# Altium integrated library Motorola Microcontroller 8-Bit.IntLib: 909 symbols (part 26 of 31)
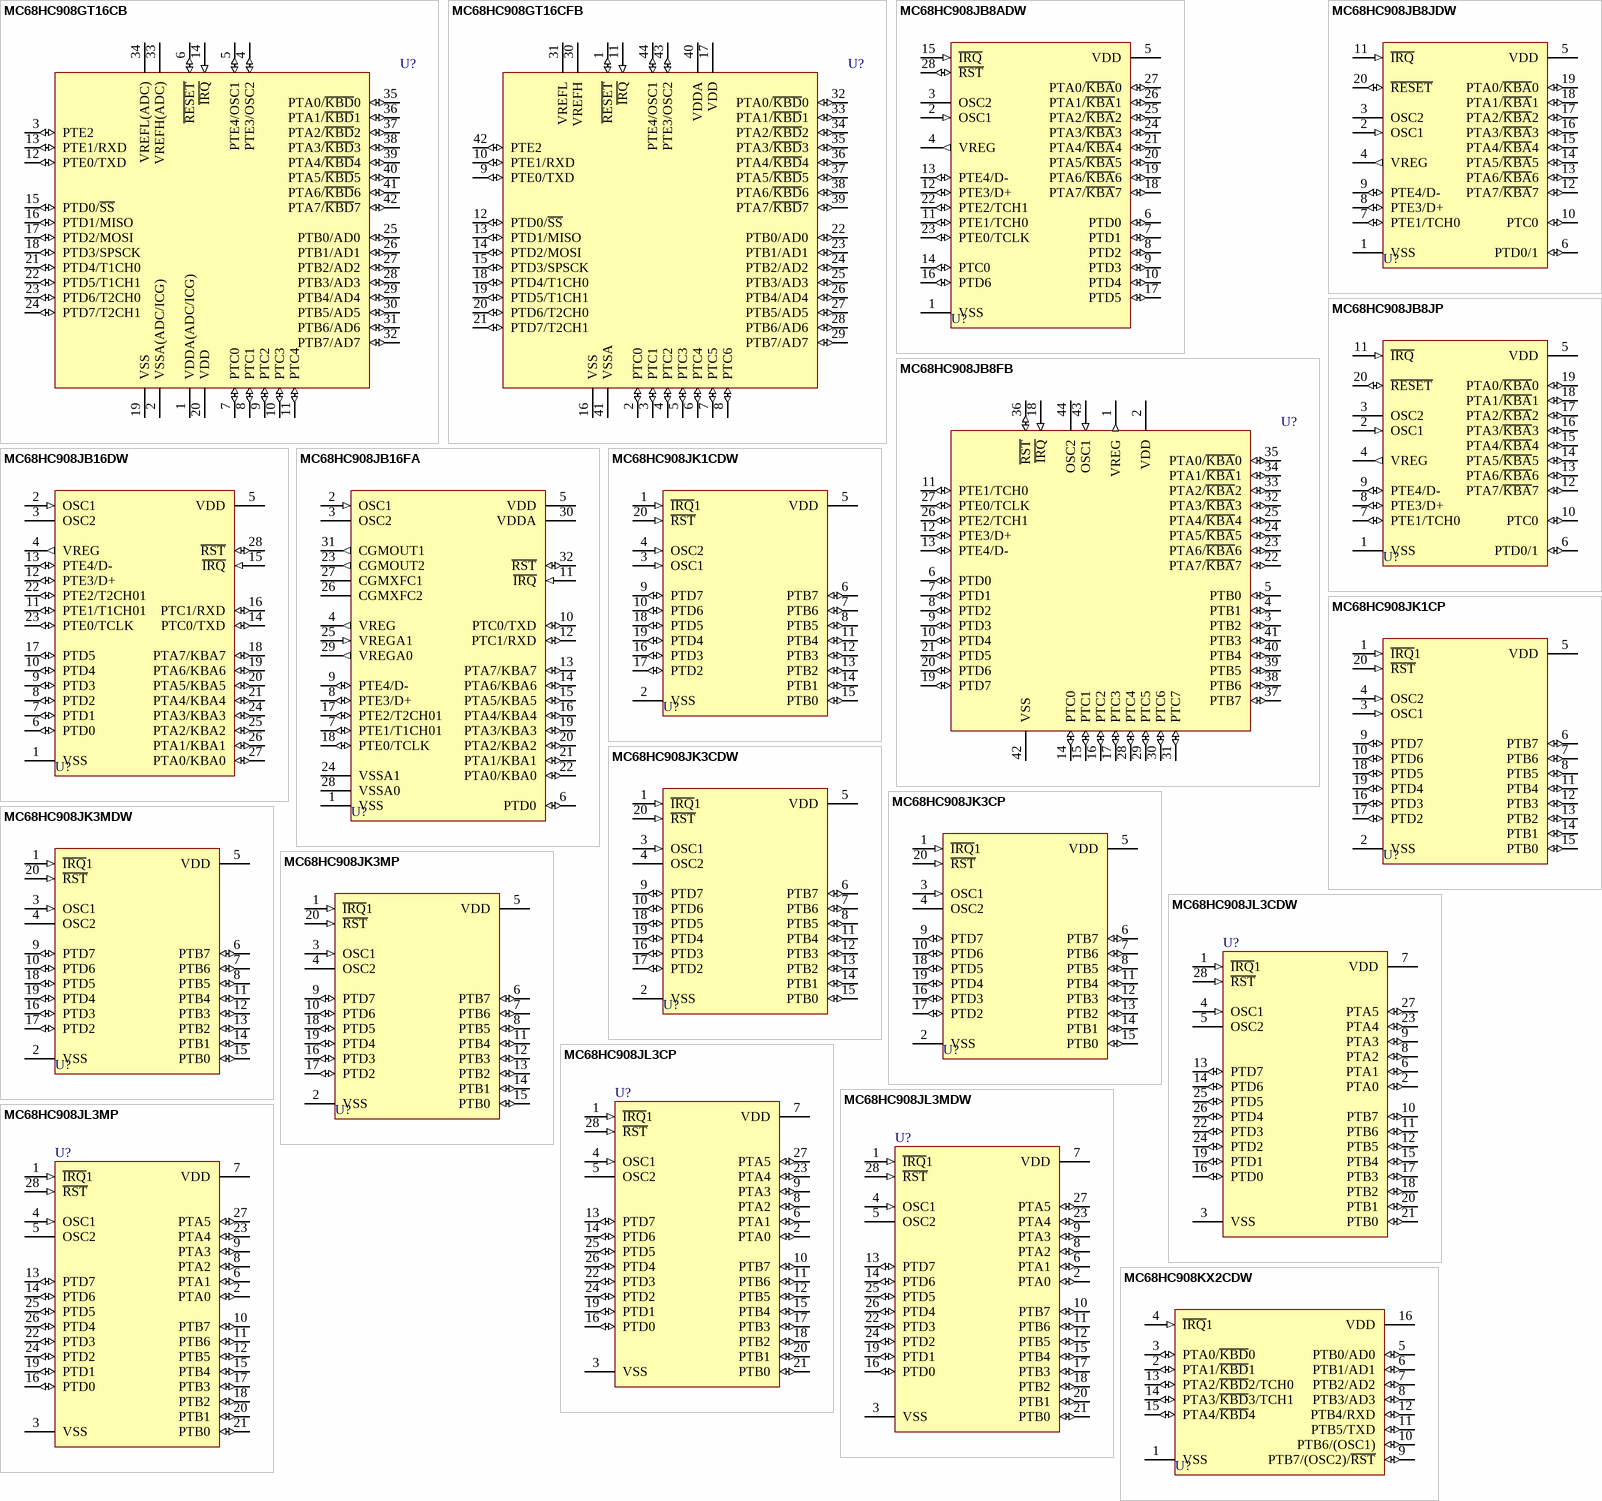
[diagram p138: symbols MC68HC908GT16CB to MC68HC908KX2CDW]

## MC68HC908JK1CP
designator U?
8-Bit Microcontroller; Published: 17-Jan-2003; LatestRevisionDate: 06-Jun-2005; LatestRevisionNote: Stylized 3D Model Added.; DatasheetVersion: Rev 1.0, 1999; PackageReference: 738-03; Publisher: Altium Limited; PackageDescription: DIP; 20 Leads; Row Spacing 7.62 mm; Pitch 2.54 mm; Code_JEDEC: MS-001-AD; ComponentLink1Description: Manufacturer Link; ComponentLink1URL: http://www.freescale.com/
footprint 738-03 (DIP; 20 Leads; Row Spacing 7.62 mm; Pitch 2.54 mm)
3D model 738-03 (DIP; 20 Leads; Row Spacing 7.62 mm; Pitch 2.54 mm)
pins: 1 ~{IRQ}1 (in), 2 VSS (power), 3 OSC1 (in), 4 OSC2 (in), 5 VDD (power), 6 PTB7 (io), 7 PTB6 (io), 8 PTB5 (io), 9 PTD7 (io), 10 PTD6 (io), 11 PTB4 (io), 12 PTB3 (io), 13 PTB2 (io), 14 PTB1 (io), 15 PTB0 (io), 16 PTD3 (io), 17 PTD2 (io), 18 PTD5 (io), 19 PTD4 (io), 20 ~{RST} (in)

## MC68HC908JK3CDW
designator U?
8-Bit Microcontroller; Published: 17-Jan-2003; LatestRevisionDate: 13-Apr-2006; LatestRevisionNote: IPC-7351 Footprint Added.; DatasheetVersion: Rev 1.0, 1999; PackageVersion: rev4.0, 2001; PackageReference: 751D-05; Publisher: Altium Limited; PackageDescription: 20-Pin Plastic Small Outline Integrated Circuit 1.27 mm Pitch; ComponentLink1Description: Manufacturer Link; ComponentLink1URL: http://www.freescale.com/
footprint 751D-05_N (SOIC, 20-Leads, Body 12.8x7.5mm, Pitch 1.27mm, IPC Medium Density)
footprint 751D-05_L (SOIC, 20-Leads, Body 12.8x7.5mm, Pitch 1.27mm, IPC High Density)
footprint 751D-05_M (SOIC, 20-Leads, Body 12.8x7.5mm, Pitch 1.27mm, IPC Low Density)
3D model 751D-05 (20-Pin Plastic Small Outline Integrated Circuit 1.27 mm Pitch)
pins: 1 ~{IRQ}1 (in), 2 VSS (power), 3 OSC1 (in), 4 OSC2, 5 VDD (power), 6 PTB7 (io), 7 PTB6 (io), 8 PTB5 (io), 9 PTD7 (io), 10 PTD6 (io), 11 PTB4 (io), 12 PTB3 (io), 13 PTB2 (io), 14 PTB1 (io), 15 PTB0 (io), 16 PTD3 (io), 17 PTD2 (io), 18 PTD5 (io), 19 PTD4 (io), 20 ~{RST} (in)

## MC68HC908JK3CP
designator U?
8-Bit Microcontroller; Published: 17-Jan-2003; LatestRevisionDate: 06-Jun-2005; LatestRevisionNote: Stylized 3D Model Added.; DatasheetVersion: Rev 1.0, 1999; PackageReference: 738-03; Publisher: Altium Limited; PackageDescription: DIP; 20 Leads; Row Spacing 7.62 mm; Pitch 2.54 mm; Code_JEDEC: MS-001-AD; ComponentLink1Description: Manufacturer Link; ComponentLink1URL: http://www.freescale.com/
footprint 738-03 (DIP; 20 Leads; Row Spacing 7.62 mm; Pitch 2.54 mm)
3D model 738-03 (DIP; 20 Leads; Row Spacing 7.62 mm; Pitch 2.54 mm)
pins: 1 ~{IRQ}1 (in), 2 VSS (power), 3 OSC1 (in), 4 OSC2, 5 VDD (power), 6 PTB7 (io), 7 PTB6 (io), 8 PTB5 (io), 9 PTD7 (io), 10 PTD6 (io), 11 PTB4 (io), 12 PTB3 (io), 13 PTB2 (io), 14 PTB1 (io), 15 PTB0 (io), 16 PTD3 (io), 17 PTD2 (io), 18 PTD5 (io), 19 PTD4 (io), 20 ~{RST} (in)

## MC68HC908JK3MDW
designator U?
8-Bit Microcontroller; Published: 17-Jan-2003; LatestRevisionDate: 13-Apr-2006; LatestRevisionNote: IPC-7351 Footprint Added.; DatasheetVersion: Rev 1.0, 1999; PackageVersion: rev4.0, 2001; PackageReference: 751D-05; Publisher: Altium Limited; PackageDescription: 20-Pin Plastic Small Outline Integrated Circuit 1.27 mm Pitch; ComponentLink1Description: Manufacturer Link; ComponentLink1URL: http://www.freescale.com/
footprint 751D-05_N (SOIC, 20-Leads, Body 12.8x7.5mm, Pitch 1.27mm, IPC Medium Density)
footprint 751D-05_L (SOIC, 20-Leads, Body 12.8x7.5mm, Pitch 1.27mm, IPC High Density)
footprint 751D-05_M (SOIC, 20-Leads, Body 12.8x7.5mm, Pitch 1.27mm, IPC Low Density)
3D model 751D-05 (20-Pin Plastic Small Outline Integrated Circuit 1.27 mm Pitch)
pins: 1 ~{IRQ}1 (in), 2 VSS (power), 3 OSC1 (in), 4 OSC2, 5 VDD (power), 6 PTB7 (io), 7 PTB6 (io), 8 PTB5 (io), 9 PTD7 (io), 10 PTD6 (io), 11 PTB4 (io), 12 PTB3 (io), 13 PTB2 (io), 14 PTB1 (io), 15 PTB0 (io), 16 PTD3 (io), 17 PTD2 (io), 18 PTD5 (io), 19 PTD4 (io), 20 ~{RST} (in)

## MC68HC908JK3MP
designator U?
8-Bit Microcontroller; Published: 17-Jan-2003; LatestRevisionDate: 06-Jun-2005; LatestRevisionNote: Stylized 3D Model Added.; DatasheetVersion: Rev 1.0, 1999; PackageReference: 738-03; Publisher: Altium Limited; PackageDescription: DIP; 20 Leads; Row Spacing 7.62 mm; Pitch 2.54 mm; Code_JEDEC: MS-001-AD; ComponentLink1Description: Manufacturer Link; ComponentLink1URL: http://www.freescale.com/
footprint 738-03 (DIP; 20 Leads; Row Spacing 7.62 mm; Pitch 2.54 mm)
3D model 738-03 (DIP; 20 Leads; Row Spacing 7.62 mm; Pitch 2.54 mm)
pins: 1 ~{IRQ}1 (in), 2 VSS (power), 3 OSC1 (in), 4 OSC2, 5 VDD (power), 6 PTB7 (io), 7 PTB6 (io), 8 PTB5 (io), 9 PTD7 (io), 10 PTD6 (io), 11 PTB4 (io), 12 PTB3 (io), 13 PTB2 (io), 14 PTB1 (io), 15 PTB0 (io), 16 PTD3 (io), 17 PTD2 (io), 18 PTD5 (io), 19 PTD4 (io), 20 ~{RST} (in)

## MC68HC908JL3CDW
designator U?
8-Bit Microcontroller; Published: 17-Jan-2003; LatestRevisionDate: 13-Apr-2006; LatestRevisionNote: IPC-7351 Footprint Added.; DatasheetVersion: Rev 1.0, 1999; PackageReference: 751F-03; Publisher: Altium Limited; PackageDescription: 28-Pin Small Outline Integrated Circuit 1.27 mm Pitch; ComponentLink1Description: Manufacturer Link; ComponentLink1URL: http://www.freescale.com/
footprint 751F-03_N (SOIC, 28-Leads, Body 17.9x7.5mm, Pitch 1.27mm, IPC Medium Density)
footprint 751F-03_L (SOIC, 28-Leads, Body 17.9x7.5mm, Pitch 1.27mm, IPC High Density)
footprint 751F-03_M (SOIC, 28-Leads, Body 17.9x7.5mm, Pitch 1.27mm, IPC Low Density)
3D model 751F-03 (28-Pin Small Outline Integrated Circuit 1.27 mm Pitch)
pins: 1 ~{IRQ}1 (in), 2 PTA0 (io), 3 VSS (power), 4 OSC1 (in), 5 OSC2, 6 PTA1 (io), 7 VDD (power), 8 PTA2 (io), 9 PTA3 (io), 10 PTB7 (io), 11 PTB6 (io), 12 PTB5 (io), 13 PTD7 (io), 14 PTD6 (io), 15 PTB4 (io), 16 PTD0 (io), 17 PTB3 (io), 18 PTB2 (io), 19 PTD1 (io), 20 PTB1 (io), 21 PTB0 (io), 22 PTD3 (io), 23 PTA4 (io), 24 PTD2 (io), 25 PTD5 (io), 26 PTD4 (io), 27 PTA5 (io), 28 ~{RST} (in)

## MC68HC908JL3CP
designator U?
8-Bit Microcontroller; Published: 17-Jan-2003; LatestRevisionDate: 06-Jun-2005; LatestRevisionNote: Stylized 3D Model Added.; DatasheetVersion: Rev 1.0, 1999; PackageReference: 710-02; Publisher: Altium Limited; PackageDescription: DIP; 28 Leads; Row Spacing 15.24 mm; Pitch 2.54 mm; ComponentLink1Description: Manufacturer Link; ComponentLink1URL: http://www.freescale.com/
footprint 710-02 (DIP; 28 Leads; Row Spacing 15.24 mm; Pitch 2.54 mm)
3D model 710-02 (DIP; 28 Leads; Row Spacing 15.24 mm; Pitch 2.54 mm)
pins: 1 ~{IRQ}1 (in), 2 PTA0 (io), 3 VSS (power), 4 OSC1 (in), 5 OSC2, 6 PTA1 (io), 7 VDD (power), 8 PTA2 (io), 9 PTA3 (io), 10 PTB7 (io), 11 PTB6 (io), 12 PTB5 (io), 13 PTD7 (io), 14 PTD6 (io), 15 PTB4 (io), 16 PTD0 (io), 17 PTB3 (io), 18 PTB2 (io), 19 PTD1 (io), 20 PTB1 (io), 21 PTB0 (io), 22 PTD3 (io), 23 PTA4 (io), 24 PTD2 (io), 25 PTD5 (io), 26 PTD4 (io), 27 PTA5 (io), 28 ~{RST} (in)

## MC68HC908JL3MDW
designator U?
8-Bit Microcontroller; Published: 17-Jan-2003; LatestRevisionDate: 13-Apr-2006; LatestRevisionNote: IPC-7351 Footprint Added.; DatasheetVersion: Rev 1.0, 1999; PackageReference: 751F-03; Publisher: Altium Limited; PackageDescription: 28-Pin Small Outline Integrated Circuit 1.27 mm Pitch; ComponentLink1Description: Manufacturer Link; ComponentLink1URL: http://www.freescale.com/
footprint 751F-03_N (SOIC, 28-Leads, Body 17.9x7.5mm, Pitch 1.27mm, IPC Medium Density)
footprint 751F-03_L (SOIC, 28-Leads, Body 17.9x7.5mm, Pitch 1.27mm, IPC High Density)
footprint 751F-03_M (SOIC, 28-Leads, Body 17.9x7.5mm, Pitch 1.27mm, IPC Low Density)
3D model 751F-03 (28-Pin Small Outline Integrated Circuit 1.27 mm Pitch)
pins: 1 ~{IRQ}1 (in), 2 PTA0 (io), 3 VSS (power), 4 OSC1 (in), 5 OSC2, 6 PTA1 (io), 7 VDD (power), 8 PTA2 (io), 9 PTA3 (io), 10 PTB7 (io), 11 PTB6 (io), 12 PTB5 (io), 13 PTD7 (io), 14 PTD6 (io), 15 PTB4 (io), 16 PTD0 (io), 17 PTB3 (io), 18 PTB2 (io), 19 PTD1 (io), 20 PTB1 (io), 21 PTB0 (io), 22 PTD3 (io), 23 PTA4 (io), 24 PTD2 (io), 25 PTD5 (io), 26 PTD4 (io), 27 PTA5 (io), 28 ~{RST} (in)

## MC68HC908JL3MP
designator U?
8-Bit Microcontroller; Published: 17-Jan-2003; LatestRevisionDate: 06-Jun-2005; LatestRevisionNote: Stylized 3D Model Added.; DatasheetVersion: Rev 1.0, 1999; PackageReference: 710-02; Publisher: Altium Limited; PackageDescription: DIP; 28 Leads; Row Spacing 15.24 mm; Pitch 2.54 mm; ComponentLink1Description: Manufacturer Link; ComponentLink1URL: http://www.freescale.com/
footprint 710-02 (DIP; 28 Leads; Row Spacing 15.24 mm; Pitch 2.54 mm)
3D model 710-02 (DIP; 28 Leads; Row Spacing 15.24 mm; Pitch 2.54 mm)
pins: 1 ~{IRQ}1 (in), 2 PTA0 (io), 3 VSS (power), 4 OSC1 (in), 5 OSC2, 6 PTA1 (io), 7 VDD (power), 8 PTA2 (io), 9 PTA3 (io), 10 PTB7 (io), 11 PTB6 (io), 12 PTB5 (io), 13 PTD7 (io), 14 PTD6 (io), 15 PTB4 (io), 16 PTD0 (io), 17 PTB3 (io), 18 PTB2 (io), 19 PTD1 (io), 20 PTB1 (io), 21 PTB0 (io), 22 PTD3 (io), 23 PTA4 (io), 24 PTD2 (io), 25 PTD5 (io), 26 PTD4 (io), 27 PTA5 (io), 28 ~{RST} (in)

## MC68HC908KX2CDW
designator U?
8-Bit Microcontroller; Note: Tie unused inputs & I/O ports to the appropriate logic level (either VDD or VSS ) to reduce the possibility of electro-static discharge damage.; Published: 17-Jan-2003; LatestRevisionDate: 13-Apr-2006; LatestRevisionNote: IPC-7351 Footprint Added.; DatasheetVersion: Rev 1, 2/2002; PackageVersion: Sep-2002; PackageReference: 751G; Publisher: Altium Limited; PackageDescription: 16-Pin Small Outline Integrated Circuit 1.27 mm Pitch; ComponentLink1Description: Manufacturer Link; ComponentLink1URL: http://www.freescale.com/; ComponentLink2Description: Datasheet; ComponentLink2URL: http://www.freescale.com/files/microcontrollers/doc/data_sheet/MC68HC908KX8.pdf
footprint 751G_N (SOIC, 16-Leads, Body 10.3x7.5mm, Pitch 1.27mm, IPC Medium Density)
footprint 751G_L (SOIC, 16-Leads, Body 10.3x7.5mm, Pitch 1.27mm, IPC High Density)
footprint 751G_M (SOIC, 16-Leads, Body 10.3x7.5mm, Pitch 1.27mm, IPC Low Density)
3D model 751G (16-Pin Small Outline Integrated Circuit 1.27 mm Pitch)
pins: 1 VSS (power), 2 PTA1/~{KBD}1 (io), 3 PTA0/~{KBD}0 (io), 4 ~{IRQ}1 (in), 5 PTB0/AD0 (io), 6 PTB1/AD1 (io), 7 PTB2/AD2 (io), 8 PTB3/AD3 (io), 9 PTB7/(OSC2)/~{RST} (io), 10 PTB6/(OSC1) (io), 11 PTB5/TXD (io), 12 PTB4/RXD (io), 13 PTA2/~{KBD}2/TCH0 (io), 14 PTA3/~{KBD}3/TCH1 (io), 15 PTA4/~{KBD}4 (io), 16 VDD (power)

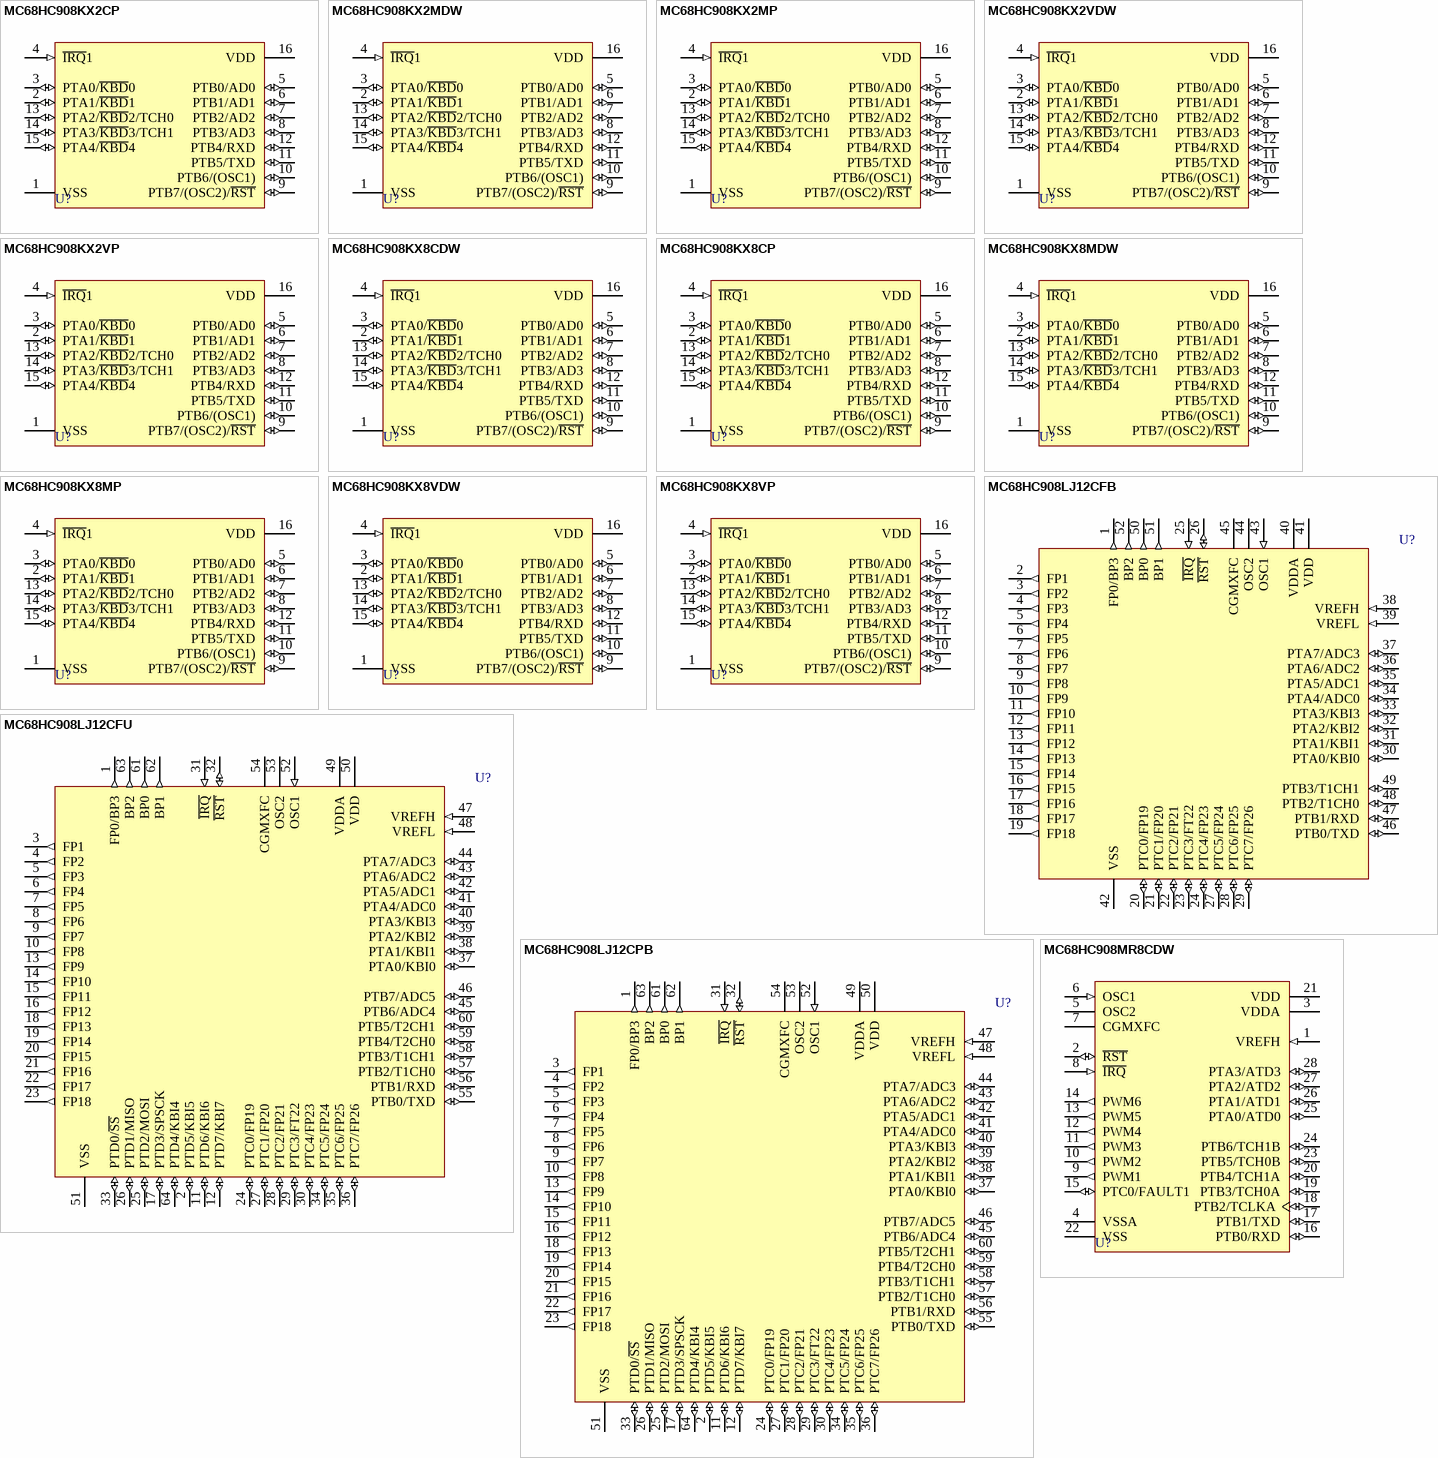
[diagram p96: symbols MC68HC908KX2CP to MC68HC908MR8CDW]

## MC68HC908KX2CP
designator U?
8-Bit Microcontroller; Note: Tie unused inputs & I/O ports to the appropriate logic level (either VDD or VSS ) to reduce the possibility of electro-static discharge damage.; Published: 17-Jan-2003; LatestRevisionDate: 06-Jun-2005; LatestRevisionNote: Stylized 3D Model Added.; DatasheetVersion: Rev 1, 2/2002; PackageVersion: rev1.0, Feb-2002; PackageReference: 648D; Publisher: Altium Limited; PackageDescription: DIP; 16 Leads; Row Spacing 7.62 mm; Pitch 2.54 mm; Code_JEDEC: MS-001-BB; ComponentLink1Description: Manufacturer Link; ComponentLink1URL: http://www.freescale.com/; ComponentLink2Description: Datasheet; ComponentLink2URL: http://www.freescale.com/files/microcontrollers/doc/data_sheet/MC68HC908KX8.pdf
footprint 648D (DIP; 16 Leads; Row Spacing 7.62 mm; Pitch 2.54 mm)
3D model 648-08 (DIP; 16 Leads; Row Spacing 7.62 mm; Pitch 2.54 mm)
pins: 1 VSS (power), 2 PTA1/~{KBD}1 (io), 3 PTA0/~{KBD}0 (io), 4 ~{IRQ}1 (in), 5 PTB0/AD0 (io), 6 PTB1/AD1 (io), 7 PTB2/AD2 (io), 8 PTB3/AD3 (io), 9 PTB7/(OSC2)/~{RST} (io), 10 PTB6/(OSC1) (io), 11 PTB5/TXD (io), 12 PTB4/RXD (io), 13 PTA2/~{KBD}2/TCH0 (io), 14 PTA3/~{KBD}3/TCH1 (io), 15 PTA4/~{KBD}4 (io), 16 VDD (power)

## MC68HC908KX2MDW
designator U?
8-Bit Microcontroller; Note: Tie unused inputs & I/O ports to the appropriate logic level (either VDD or VSS ) to reduce the possibility of electro-static discharge damage.; Published: 17-Jan-2003; LatestRevisionDate: 13-Apr-2006; LatestRevisionNote: IPC-7351 Footprint Added.; DatasheetVersion: Rev 1, 2/2002; PackageVersion: Sep-2002; PackageReference: 751G; Publisher: Altium Limited; PackageDescription: 16-Pin Small Outline Integrated Circuit 1.27 mm Pitch; ComponentLink1Description: Manufacturer Link; ComponentLink1URL: http://www.freescale.com/; ComponentLink2Description: Datasheet; ComponentLink2URL: http://www.freescale.com/files/microcontrollers/doc/data_sheet/MC68HC908KX8.pdf
footprint 751G_N (SOIC, 16-Leads, Body 10.3x7.5mm, Pitch 1.27mm, IPC Medium Density)
footprint 751G_L (SOIC, 16-Leads, Body 10.3x7.5mm, Pitch 1.27mm, IPC High Density)
footprint 751G_M (SOIC, 16-Leads, Body 10.3x7.5mm, Pitch 1.27mm, IPC Low Density)
3D model 751G (16-Pin Small Outline Integrated Circuit 1.27 mm Pitch)
pins: 1 VSS (power), 2 PTA1/~{KBD}1 (io), 3 PTA0/~{KBD}0 (io), 4 ~{IRQ}1 (in), 5 PTB0/AD0 (io), 6 PTB1/AD1 (io), 7 PTB2/AD2 (io), 8 PTB3/AD3 (io), 9 PTB7/(OSC2)/~{RST} (io), 10 PTB6/(OSC1) (io), 11 PTB5/TXD (io), 12 PTB4/RXD (io), 13 PTA2/~{KBD}2/TCH0 (io), 14 PTA3/~{KBD}3/TCH1 (io), 15 PTA4/~{KBD}4 (io), 16 VDD (power)

## MC68HC908KX2MP
designator U?
8-Bit Microcontroller; Note: Tie unused inputs & I/O ports to the appropriate logic level (either VDD or VSS ) to reduce the possibility of electro-static discharge damage.; Published: 17-Jan-2003; LatestRevisionDate: 06-Jun-2005; LatestRevisionNote: Stylized 3D Model Added.; DatasheetVersion: Rev 1, 2/2002; PackageVersion: rev1.0, Feb-2002; PackageReference: 648D; Publisher: Altium Limited; PackageDescription: DIP; 16 Leads; Row Spacing 7.62 mm; Pitch 2.54 mm; Code_JEDEC: MS-001-BB; ComponentLink1Description: Manufacturer Link; ComponentLink1URL: http://www.freescale.com/; ComponentLink2Description: Datasheet; ComponentLink2URL: http://www.freescale.com/files/microcontrollers/doc/data_sheet/MC68HC908KX8.pdf
footprint 648D (DIP; 16 Leads; Row Spacing 7.62 mm; Pitch 2.54 mm)
3D model 648-08 (DIP; 16 Leads; Row Spacing 7.62 mm; Pitch 2.54 mm)
pins: 1 VSS (power), 2 PTA1/~{KBD}1 (io), 3 PTA0/~{KBD}0 (io), 4 ~{IRQ}1 (in), 5 PTB0/AD0 (io), 6 PTB1/AD1 (io), 7 PTB2/AD2 (io), 8 PTB3/AD3 (io), 9 PTB7/(OSC2)/~{RST} (io), 10 PTB6/(OSC1) (io), 11 PTB5/TXD (io), 12 PTB4/RXD (io), 13 PTA2/~{KBD}2/TCH0 (io), 14 PTA3/~{KBD}3/TCH1 (io), 15 PTA4/~{KBD}4 (io), 16 VDD (power)

## MC68HC908KX2VDW
designator U?
8-Bit Microcontroller; Note: Tie unused inputs & I/O ports to the appropriate logic level (either VDD or VSS ) to reduce the possibility of electro-static discharge damage.; Published: 17-Jan-2003; LatestRevisionDate: 13-Apr-2006; LatestRevisionNote: IPC-7351 Footprint Added.; DatasheetVersion: Rev 1, 2/2002; PackageVersion: Sep-2002; PackageReference: 751G; Publisher: Altium Limited; PackageDescription: 16-Pin Small Outline Integrated Circuit 1.27 mm Pitch; ComponentLink1Description: Manufacturer Link; ComponentLink1URL: http://www.freescale.com/; ComponentLink2Description: Datasheet; ComponentLink2URL: http://www.freescale.com/files/microcontrollers/doc/data_sheet/MC68HC908KX8.pdf
footprint 751G_N (SOIC, 16-Leads, Body 10.3x7.5mm, Pitch 1.27mm, IPC Medium Density)
footprint 751G_L (SOIC, 16-Leads, Body 10.3x7.5mm, Pitch 1.27mm, IPC High Density)
footprint 751G_M (SOIC, 16-Leads, Body 10.3x7.5mm, Pitch 1.27mm, IPC Low Density)
3D model 751G (16-Pin Small Outline Integrated Circuit 1.27 mm Pitch)
pins: 1 VSS (power), 2 PTA1/~{KBD}1 (io), 3 PTA0/~{KBD}0 (io), 4 ~{IRQ}1 (in), 5 PTB0/AD0 (io), 6 PTB1/AD1 (io), 7 PTB2/AD2 (io), 8 PTB3/AD3 (io), 9 PTB7/(OSC2)/~{RST} (io), 10 PTB6/(OSC1) (io), 11 PTB5/TXD (io), 12 PTB4/RXD (io), 13 PTA2/~{KBD}2/TCH0 (io), 14 PTA3/~{KBD}3/TCH1 (io), 15 PTA4/~{KBD}4 (io), 16 VDD (power)

## MC68HC908KX2VP
designator U?
8-Bit Microcontroller; Note: Tie unused inputs & I/O ports to the appropriate logic level (either VDD or VSS ) to reduce the possibility of electro-static discharge damage.; Published: 17-Jan-2003; LatestRevisionDate: 06-Jun-2005; LatestRevisionNote: Stylized 3D Model Added.; DatasheetVersion: Rev 1, 2/2002; PackageVersion: rev1.0, Feb-2002; PackageReference: 648D; Publisher: Altium Limited; PackageDescription: DIP; 16 Leads; Row Spacing 7.62 mm; Pitch 2.54 mm; Code_JEDEC: MS-001-BB; ComponentLink1Description: Manufacturer Link; ComponentLink1URL: http://www.freescale.com/; ComponentLink2Description: Datasheet; ComponentLink2URL: http://www.freescale.com/files/microcontrollers/doc/data_sheet/MC68HC908KX8.pdf
footprint 648D (DIP; 16 Leads; Row Spacing 7.62 mm; Pitch 2.54 mm)
3D model 648-08 (DIP; 16 Leads; Row Spacing 7.62 mm; Pitch 2.54 mm)
pins: 1 VSS (power), 2 PTA1/~{KBD}1 (io), 3 PTA0/~{KBD}0 (io), 4 ~{IRQ}1 (in), 5 PTB0/AD0 (io), 6 PTB1/AD1 (io), 7 PTB2/AD2 (io), 8 PTB3/AD3 (io), 9 PTB7/(OSC2)/~{RST} (io), 10 PTB6/(OSC1) (io), 11 PTB5/TXD (io), 12 PTB4/RXD (io), 13 PTA2/~{KBD}2/TCH0 (io), 14 PTA3/~{KBD}3/TCH1 (io), 15 PTA4/~{KBD}4 (io), 16 VDD (power)

## MC68HC908KX8CDW
designator U?
8-Bit Microcontroller; Note: Tie unused inputs & I/O ports to the appropriate logic level (either VDD or VSS ) to reduce the possibility of electro-static discharge damage.; Published: 17-Jan-2003; LatestRevisionDate: 13-Apr-2006; LatestRevisionNote: IPC-7351 Footprint Added.; DatasheetVersion: Rev 1, 2/2002; PackageVersion: Sep-2002; PackageReference: 751G; Publisher: Altium Limited; PackageDescription: 16-Pin Small Outline Integrated Circuit 1.27 mm Pitch; ComponentLink1Description: Manufacturer Link; ComponentLink1URL: http://www.freescale.com/; ComponentLink2Description: Datasheet; ComponentLink2URL: http://www.freescale.com/files/microcontrollers/doc/data_sheet/MC68HC908KX8.pdf
footprint 751G_N (SOIC, 16-Leads, Body 10.3x7.5mm, Pitch 1.27mm, IPC Medium Density)
footprint 751G_L (SOIC, 16-Leads, Body 10.3x7.5mm, Pitch 1.27mm, IPC High Density)
footprint 751G_M (SOIC, 16-Leads, Body 10.3x7.5mm, Pitch 1.27mm, IPC Low Density)
3D model 751G (16-Pin Small Outline Integrated Circuit 1.27 mm Pitch)
pins: 1 VSS (power), 2 PTA1/~{KBD}1 (io), 3 PTA0/~{KBD}0 (io), 4 ~{IRQ}1 (in), 5 PTB0/AD0 (io), 6 PTB1/AD1 (io), 7 PTB2/AD2 (io), 8 PTB3/AD3 (io), 9 PTB7/(OSC2)/~{RST} (io), 10 PTB6/(OSC1) (io), 11 PTB5/TXD (io), 12 PTB4/RXD (io), 13 PTA2/~{KBD}2/TCH0 (io), 14 PTA3/~{KBD}3/TCH1 (io), 15 PTA4/~{KBD}4 (io), 16 VDD (power)

## MC68HC908KX8CP
designator U?
8-Bit Microcontroller; Note: Tie unused inputs & I/O ports to the appropriate logic level (either VDD or VSS ) to reduce the possibility of electro-static discharge damage.; Published: 17-Jan-2003; LatestRevisionDate: 06-Jun-2005; LatestRevisionNote: Stylized 3D Model Added.; DatasheetVersion: Rev 1, 2/2002; PackageVersion: rev1.0, Feb-2002; PackageReference: 648D; Publisher: Altium Limited; PackageDescription: DIP; 16 Leads; Row Spacing 7.62 mm; Pitch 2.54 mm; Code_JEDEC: MS-001-BB; ComponentLink1Description: Manufacturer Link; ComponentLink1URL: http://www.freescale.com/; ComponentLink2Description: Datasheet; ComponentLink2URL: http://www.freescale.com/files/microcontrollers/doc/data_sheet/MC68HC908KX8.pdf
footprint 648D (DIP; 16 Leads; Row Spacing 7.62 mm; Pitch 2.54 mm)
3D model 648-08 (DIP; 16 Leads; Row Spacing 7.62 mm; Pitch 2.54 mm)
pins: 1 VSS (power), 2 PTA1/~{KBD}1 (io), 3 PTA0/~{KBD}0 (io), 4 ~{IRQ}1 (in), 5 PTB0/AD0 (io), 6 PTB1/AD1 (io), 7 PTB2/AD2 (io), 8 PTB3/AD3 (io), 9 PTB7/(OSC2)/~{RST} (io), 10 PTB6/(OSC1) (io), 11 PTB5/TXD (io), 12 PTB4/RXD (io), 13 PTA2/~{KBD}2/TCH0 (io), 14 PTA3/~{KBD}3/TCH1 (io), 15 PTA4/~{KBD}4 (io), 16 VDD (power)

## MC68HC908KX8MDW
designator U?
8-Bit Microcontroller; Note: Tie unused inputs & I/O ports to the appropriate logic level (either VDD or VSS ) to reduce the possibility of electro-static discharge damage.; Published: 17-Jan-2003; LatestRevisionDate: 13-Apr-2006; LatestRevisionNote: IPC-7351 Footprint Added.; DatasheetVersion: Rev 1, 2/2002; PackageVersion: Sep-2002; PackageReference: 751G; Publisher: Altium Limited; PackageDescription: 16-Pin Small Outline Integrated Circuit 1.27 mm Pitch; ComponentLink1Description: Manufacturer Link; ComponentLink1URL: http://www.freescale.com/; ComponentLink2Description: Datasheet; ComponentLink2URL: http://www.freescale.com/files/microcontrollers/doc/data_sheet/MC68HC908KX8.pdf
footprint 751G_N (SOIC, 16-Leads, Body 10.3x7.5mm, Pitch 1.27mm, IPC Medium Density)
footprint 751G_L (SOIC, 16-Leads, Body 10.3x7.5mm, Pitch 1.27mm, IPC High Density)
footprint 751G_M (SOIC, 16-Leads, Body 10.3x7.5mm, Pitch 1.27mm, IPC Low Density)
3D model 751G (16-Pin Small Outline Integrated Circuit 1.27 mm Pitch)
pins: 1 VSS (power), 2 PTA1/~{KBD}1 (io), 3 PTA0/~{KBD}0 (io), 4 ~{IRQ}1 (in), 5 PTB0/AD0 (io), 6 PTB1/AD1 (io), 7 PTB2/AD2 (io), 8 PTB3/AD3 (io), 9 PTB7/(OSC2)/~{RST} (io), 10 PTB6/(OSC1) (io), 11 PTB5/TXD (io), 12 PTB4/RXD (io), 13 PTA2/~{KBD}2/TCH0 (io), 14 PTA3/~{KBD}3/TCH1 (io), 15 PTA4/~{KBD}4 (io), 16 VDD (power)

## MC68HC908KX8MP
designator U?
8-Bit Microcontroller; Note: Tie unused inputs & I/O ports to the appropriate logic level (either VDD or VSS ) to reduce the possibility of electro-static discharge damage.; Published: 17-Jan-2003; LatestRevisionDate: 06-Jun-2005; LatestRevisionNote: Stylized 3D Model Added.; DatasheetVersion: Rev 1, 2/2002; PackageVersion: rev1.0, Feb-2002; PackageReference: 648D; Publisher: Altium Limited; PackageDescription: DIP; 16 Leads; Row Spacing 7.62 mm; Pitch 2.54 mm; Code_JEDEC: MS-001-BB; ComponentLink1Description: Manufacturer Link; ComponentLink1URL: http://www.freescale.com/; ComponentLink2Description: Datasheet; ComponentLink2URL: http://www.freescale.com/files/microcontrollers/doc/data_sheet/MC68HC908KX8.pdf
footprint 648D (DIP; 16 Leads; Row Spacing 7.62 mm; Pitch 2.54 mm)
3D model 648-08 (DIP; 16 Leads; Row Spacing 7.62 mm; Pitch 2.54 mm)
pins: 1 VSS (power), 2 PTA1/~{KBD}1 (io), 3 PTA0/~{KBD}0 (io), 4 ~{IRQ}1 (in), 5 PTB0/AD0 (io), 6 PTB1/AD1 (io), 7 PTB2/AD2 (io), 8 PTB3/AD3 (io), 9 PTB7/(OSC2)/~{RST} (io), 10 PTB6/(OSC1) (io), 11 PTB5/TXD (io), 12 PTB4/RXD (io), 13 PTA2/~{KBD}2/TCH0 (io), 14 PTA3/~{KBD}3/TCH1 (io), 15 PTA4/~{KBD}4 (io), 16 VDD (power)

## MC68HC908KX8VDW
designator U?
8-Bit Microcontroller; Note: Tie unused inputs & I/O ports to the appropriate logic level (either VDD or VSS ) to reduce the possibility of electro-static discharge damage.; Published: 17-Jan-2003; LatestRevisionDate: 13-Apr-2006; LatestRevisionNote: IPC-7351 Footprint Added.; DatasheetVersion: Rev 1, 2/2002; PackageVersion: Sep-2002; PackageReference: 751G; Publisher: Altium Limited; PackageDescription: 16-Pin Small Outline Integrated Circuit 1.27 mm Pitch; ComponentLink1Description: Manufacturer Link; ComponentLink1URL: http://www.freescale.com/; ComponentLink2Description: Datasheet; ComponentLink2URL: http://www.freescale.com/files/microcontrollers/doc/data_sheet/MC68HC908KX8.pdf
footprint 751G_N (SOIC, 16-Leads, Body 10.3x7.5mm, Pitch 1.27mm, IPC Medium Density)
footprint 751G_L (SOIC, 16-Leads, Body 10.3x7.5mm, Pitch 1.27mm, IPC High Density)
footprint 751G_M (SOIC, 16-Leads, Body 10.3x7.5mm, Pitch 1.27mm, IPC Low Density)
3D model 751G (16-Pin Small Outline Integrated Circuit 1.27 mm Pitch)
pins: 1 VSS (power), 2 PTA1/~{KBD}1 (io), 3 PTA0/~{KBD}0 (io), 4 ~{IRQ}1 (in), 5 PTB0/AD0 (io), 6 PTB1/AD1 (io), 7 PTB2/AD2 (io), 8 PTB3/AD3 (io), 9 PTB7/(OSC2)/~{RST} (io), 10 PTB6/(OSC1) (io), 11 PTB5/TXD (io), 12 PTB4/RXD (io), 13 PTA2/~{KBD}2/TCH0 (io), 14 PTA3/~{KBD}3/TCH1 (io), 15 PTA4/~{KBD}4 (io), 16 VDD (power)

## MC68HC908KX8VP
designator U?
8-Bit Microcontroller; Note: Tie unused inputs & I/O ports to the appropriate logic level (either VDD or VSS ) to reduce the possibility of electro-static discharge damage.; Published: 17-Jan-2003; LatestRevisionDate: 06-Jun-2005; LatestRevisionNote: Stylized 3D Model Added.; DatasheetVersion: Rev 1, 2/2002; PackageVersion: rev1.0, Feb-2002; PackageReference: 648D; Publisher: Altium Limited; PackageDescription: DIP; 16 Leads; Row Spacing 7.62 mm; Pitch 2.54 mm; Code_JEDEC: MS-001-BB; ComponentLink1Description: Manufacturer Link; ComponentLink1URL: http://www.freescale.com/; ComponentLink2Description: Datasheet; ComponentLink2URL: http://www.freescale.com/files/microcontrollers/doc/data_sheet/MC68HC908KX8.pdf
footprint 648D (DIP; 16 Leads; Row Spacing 7.62 mm; Pitch 2.54 mm)
3D model 648-08 (DIP; 16 Leads; Row Spacing 7.62 mm; Pitch 2.54 mm)
pins: 1 VSS (power), 2 PTA1/~{KBD}1 (io), 3 PTA0/~{KBD}0 (io), 4 ~{IRQ}1 (in), 5 PTB0/AD0 (io), 6 PTB1/AD1 (io), 7 PTB2/AD2 (io), 8 PTB3/AD3 (io), 9 PTB7/(OSC2)/~{RST} (io), 10 PTB6/(OSC1) (io), 11 PTB5/TXD (io), 12 PTB4/RXD (io), 13 PTA2/~{KBD}2/TCH0 (io), 14 PTA3/~{KBD}3/TCH1 (io), 15 PTA4/~{KBD}4 (io), 16 VDD (power)

## MC68HC908LJ12CFB
designator U?
8-Bit Microcontroller; Published: 17-Jan-2003; LatestRevisionDate: 13-Apr-2006; LatestRevisionNote: IPC-7351 Footprint Added.; DatasheetVersion: Rev 2, 2/2002; PackageVersion: rev4, Jul-2002; PackageReference: 848D; Publisher: Altium Limited; PackageDescription: 52-Pin Quad Flat Pack 0.65 mm Pitch; ComponentLink1Description: Manufacturer Link; ComponentLink1URL: http://www.freescale.com/; ComponentLink2Description: Datasheet; ComponentLink2URL: http://www.freescale.com/files/microcontrollers/doc/data_sheet/MC68HC908LJ12.pdf
footprint 848D_N (QFP, 52-Leads, Body 10 x 10mm, Pitch 0.65mm, IPC Medium Density)
footprint 848D_L (QFP, 52-Leads, Body 10 x 10mm, Pitch 0.65mm, IPC High Density)
footprint 848D_M (QFP, 52-Leads, Body 10 x 10mm, Pitch 0.65mm, IPC Low Density)
3D model MC68HC908-848D (52-Pin Quad Flat Pack 0.65 mm Pitch)
pins: 1 FP0/BP3 (out), 2 FP1 (out), 3 FP2 (out), 4 FP3 (out), 5 FP4 (out), 6 FP5 (out), 7 FP6 (out), 8 FP7 (out), 9 FP8 (out), 10 FP9 (out), 11 FP10 (out), 12 FP11 (out), 13 FP12 (out), 14 FP13 (out), 15 FP14 (out), 16 FP15 (out), 17 FP16 (out), 18 FP17 (out), 19 FP18 (out), 20 PTC0/FP19 (io), 21 PTC1/FP20 (io), 22 PTC2/FP21 (io), 23 PTC3/FT22 (io), 24 PTC4/FP23 (io), 25 ~{IRQ} (in), 26 ~{RST} (io), 27 PTC5/FP24 (io), 28 PTC6/FP25 (io), 29 PTC7/FP26 (io), 30 PTA0/KBI0 (io), 31 PTA1/KBI1 (io), 32 PTA2/KBI2 (io), 33 PTA3/KBI3 (io), 34 PTA4/ADC0 (io), 35 PTA5/ADC1 (io), 36 PTA6/ADC2 (io), 37 PTA7/ADC3 (io), 38 VREFH (in), 39 VREFL (in), 40 VDDA (power), 41 VDD (power), 42 VSS (power), 43 OSC1 (in), 44 OSC2, 45 CGMXFC, 46 PTB0/TXD (io), 47 PTB1/RXD (io), 48 PTB2/T1CH0 (io), 49 PTB3/T1CH1 (io), 50 BP0 (out), 51 BP1 (out), 52 BP2 (out)

## MC68HC908LJ12CFU
designator U?
8-Bit Microcontroller; Published: 17-Jan-2003; LatestRevisionDate: 13-Apr-2006; LatestRevisionNote: IPC-7351 Footprint Added.; DatasheetVersion: Rev 2, 2/2002; PackageVersion: rev2, 2000; PackageReference: 840B-01; Publisher: Altium Limited; PackageDescription: 64-Pin Quad Flat Pack 0.8 mm Pitch; Code_IPC: QFP80P1720X1720-64; ComponentLink1Description: Manufacturer Link; ComponentLink1URL: http://www.freescale.com/; ComponentLink2Description: Datasheet; ComponentLink2URL: http://www.freescale.com/files/microcontrollers/doc/data_sheet/MC68HC908LJ12.pdf
footprint 840B-01_N (QFP, 64-Leads, Body 14x14mm, Pitch 0.8mm, IPC Medium Density)
footprint 840B-01_L (QFP, 64-Leads, Body 14x14mm, Pitch 0.8mm, IPC High Density)
footprint 840B-01_M (QFP, 64-Leads, Body 14x14mm, Pitch 0.8mm, IPC Low Density)
3D model MC68HC908-840B-01 (64-Pin Quad Flat Pack 0.8 mm Pitch)
pins: 1 FP0/BP3 (out), 2 PTD5/KBI5 (io), 3 FP1 (out), 4 FP2 (out), 5 FP3 (out), 6 FP4 (out), 7 FP5 (out), 8 FP6 (out), 9 FP7 (out), 10 FP8 (out), 11 PTD6/KBI6 (io), 12 PTD7/KBI7 (io), 13 FP9 (out), 14 FP10 (out), 15 FP11 (out), 16 FP12 (out), 17 PTD3/SPSCK (io), 18 FP13 (out), 19 FP14 (out), 20 FP15 (out), 21 FP16 (out), 22 FP17 (out), 23 FP18 (out), 24 PTC0/FP19 (io), 25 PTD2/MOSI (io), 26 PTD1/MISO (io), 27 PTC1/FP20 (io), 28 PTC2/FP21 (io), 29 PTC3/FT22 (io), 30 PTC4/FP23 (io), 31 ~{IRQ} (in), 32 ~{RST} (io), 33 PTD0/~{SS} (io), 34 PTC5/FP24 (io), 35 PTC6/FP25 (io), 36 PTC7/FP26 (io), 37 PTA0/KBI0 (io), 38 PTA1/KBI1 (io), 39 PTA2/KBI2 (io), 40 PTA3/KBI3 (io), 41 PTA4/ADC0 (io), 42 PTA5/ADC1 (io), 43 PTA6/ADC2 (io), 44 PTA7/ADC3 (io), 45 PTB6/ADC4 (io), 46 PTB7/ADC5 (io), 47 VREFH (in), 48 VREFL (in), 49 VDDA (power), 50 VDD (power), 51 VSS (power), 52 OSC1 (in), 53 OSC2, 54 CGMXFC, 55 PTB0/TXD (io), 56 PTB1/RXD (io), 57 PTB2/T1CH0 (io), 58 PTB3/T1CH1 (io), 59 PTB4/T2CH0 (io), 60 PTB5/T2CH1 (io), 61 BP0 (out), 62 BP1 (out), 63 BP2 (out), 64 PTD4/KBI4 (io)

## MC68HC908LJ12CPB
designator U?
8-Bit Microcontroller; Published: 17-Jan-2003; LatestRevisionDate: 13-Apr-2006; LatestRevisionNote: IPC-7351 Footprint Added.; DatasheetVersion: Rev 2, 2/2002; PackageVersion: rev2.0, Feb-2002; PackageReference: 840F; Publisher: Altium Limited; PackageDescription: 64-Pin Thin Quad Flat Pack 0.5 mm Pitch; ComponentLink1Description: Manufacturer Link; ComponentLink1URL: http://www.freescale.com/; ComponentLink2Description: Datasheet; ComponentLink2URL: http://www.freescale.com/files/microcontrollers/doc/data_sheet/MC68HC908LJ12.pdf
footprint 840F_N (Thin QFP, 64-Leads, Body 10x10mm, Pitch 0.5mm, IPC Medium Density)
footprint 840F_L (Thin QFP, 64-Leads, Body 10x10mm, Pitch 0.5mm, IPC High Density)
footprint 840F_M (Thin QFP, 64-Leads, Body 10x10mm, Pitch 0.5mm, IPC Low Density)
3D model MC68HC908-840F (64-Pin Thin Quad Flat Pack 0.5 mm Pitch)
pins: 1 FP0/BP3 (out), 2 PTD5/KBI5 (io), 3 FP1 (out), 4 FP2 (out), 5 FP3 (out), 6 FP4 (out), 7 FP5 (out), 8 FP6 (out), 9 FP7 (out), 10 FP8 (out), 11 PTD6/KBI6 (io), 12 PTD7/KBI7 (io), 13 FP9 (out), 14 FP10 (out), 15 FP11 (out), 16 FP12 (out), 17 PTD3/SPSCK (io), 18 FP13 (out), 19 FP14 (out), 20 FP15 (out), 21 FP16 (out), 22 FP17 (out), 23 FP18 (out), 24 PTC0/FP19 (io), 25 PTD2/MOSI (io), 26 PTD1/MISO (io), 27 PTC1/FP20 (io), 28 PTC2/FP21 (io), 29 PTC3/FT22 (io), 30 PTC4/FP23 (io), 31 ~{IRQ} (in), 32 ~{RST} (io), 33 PTD0/~{SS} (io), 34 PTC5/FP24 (io), 35 PTC6/FP25 (io), 36 PTC7/FP26 (io), 37 PTA0/KBI0 (io), 38 PTA1/KBI1 (io), 39 PTA2/KBI2 (io), 40 PTA3/KBI3 (io), 41 PTA4/ADC0 (io), 42 PTA5/ADC1 (io), 43 PTA6/ADC2 (io), 44 PTA7/ADC3 (io), 45 PTB6/ADC4 (io), 46 PTB7/ADC5 (io), 47 VREFH (in), 48 VREFL (in), 49 VDDA (power), 50 VDD (power), 51 VSS (power), 52 OSC1 (in), 53 OSC2, 54 CGMXFC, 55 PTB0/TXD (io), 56 PTB1/RXD (io), 57 PTB2/T1CH0 (io), 58 PTB3/T1CH1 (io), 59 PTB4/T2CH0 (io), 60 PTB5/T2CH1 (io), 61 BP0 (out), 62 BP1 (out), 63 BP2 (out), 64 PTD4/KBI4 (io)

## MC68HC908MR8CDW
designator U?
8-Bit Microcontroller; Published: 17-Jan-2003; LatestRevisionDate: 13-Apr-2006; LatestRevisionNote: IPC-7351 Footprint Added.; DatasheetVersion: Rev 4, 8/2002; PackageReference: 751F-03; Publisher: Altium Limited; PackageDescription: 28-Pin Small Outline Integrated Circuit 1.27 mm Pitch; ComponentLink1Description: Manufacturer Link; ComponentLink1URL: http://www.freescale.com/; ComponentLink2Description: Datasheet; ComponentLink2URL: http://www.freescale.com/files/microcontrollers/doc/data_sheet/MC68HC908MR8.pdf
footprint 751F-03_N (SOIC, 28-Leads, Body 17.9x7.5mm, Pitch 1.27mm, IPC Medium Density)
footprint 751F-03_L (SOIC, 28-Leads, Body 17.9x7.5mm, Pitch 1.27mm, IPC High Density)
footprint 751F-03_M (SOIC, 28-Leads, Body 17.9x7.5mm, Pitch 1.27mm, IPC Low Density)
3D model 751F-03 (28-Pin Small Outline Integrated Circuit 1.27 mm Pitch)
pins: 1 VREFH (in), 2 ~{RST} (io), 3 VDDA (power), 4 VSSA (power), 5 OSC2, 6 OSC1 (in), 7 CGMXFC, 8 ~{IRQ} (in), 9 PWM1 (out), 10 PWM2 (out), 11 PWM3 (out), 12 PWM4 (out), 13 PWM5 (out), 14 PWM6 (out), 15 PTC0/FAULT1 (io), 16 PTB0/RXD (io), 17 PTB1/TXD (io), 18 PTB2/TCLKA (io), 19 PTB3/TCH0A (io), 20 PTB4/TCH1A (io), 21 VDD (power), 22 VSS (power), 23 PTB5/TCH0B (io), 24 PTB6/TCH1B (io), 25 PTA0/ATD0 (io), 26 PTA1/ATD1 (io), 27 PTA2/ATD2 (io), 28 PTA3/ATD3 (io)

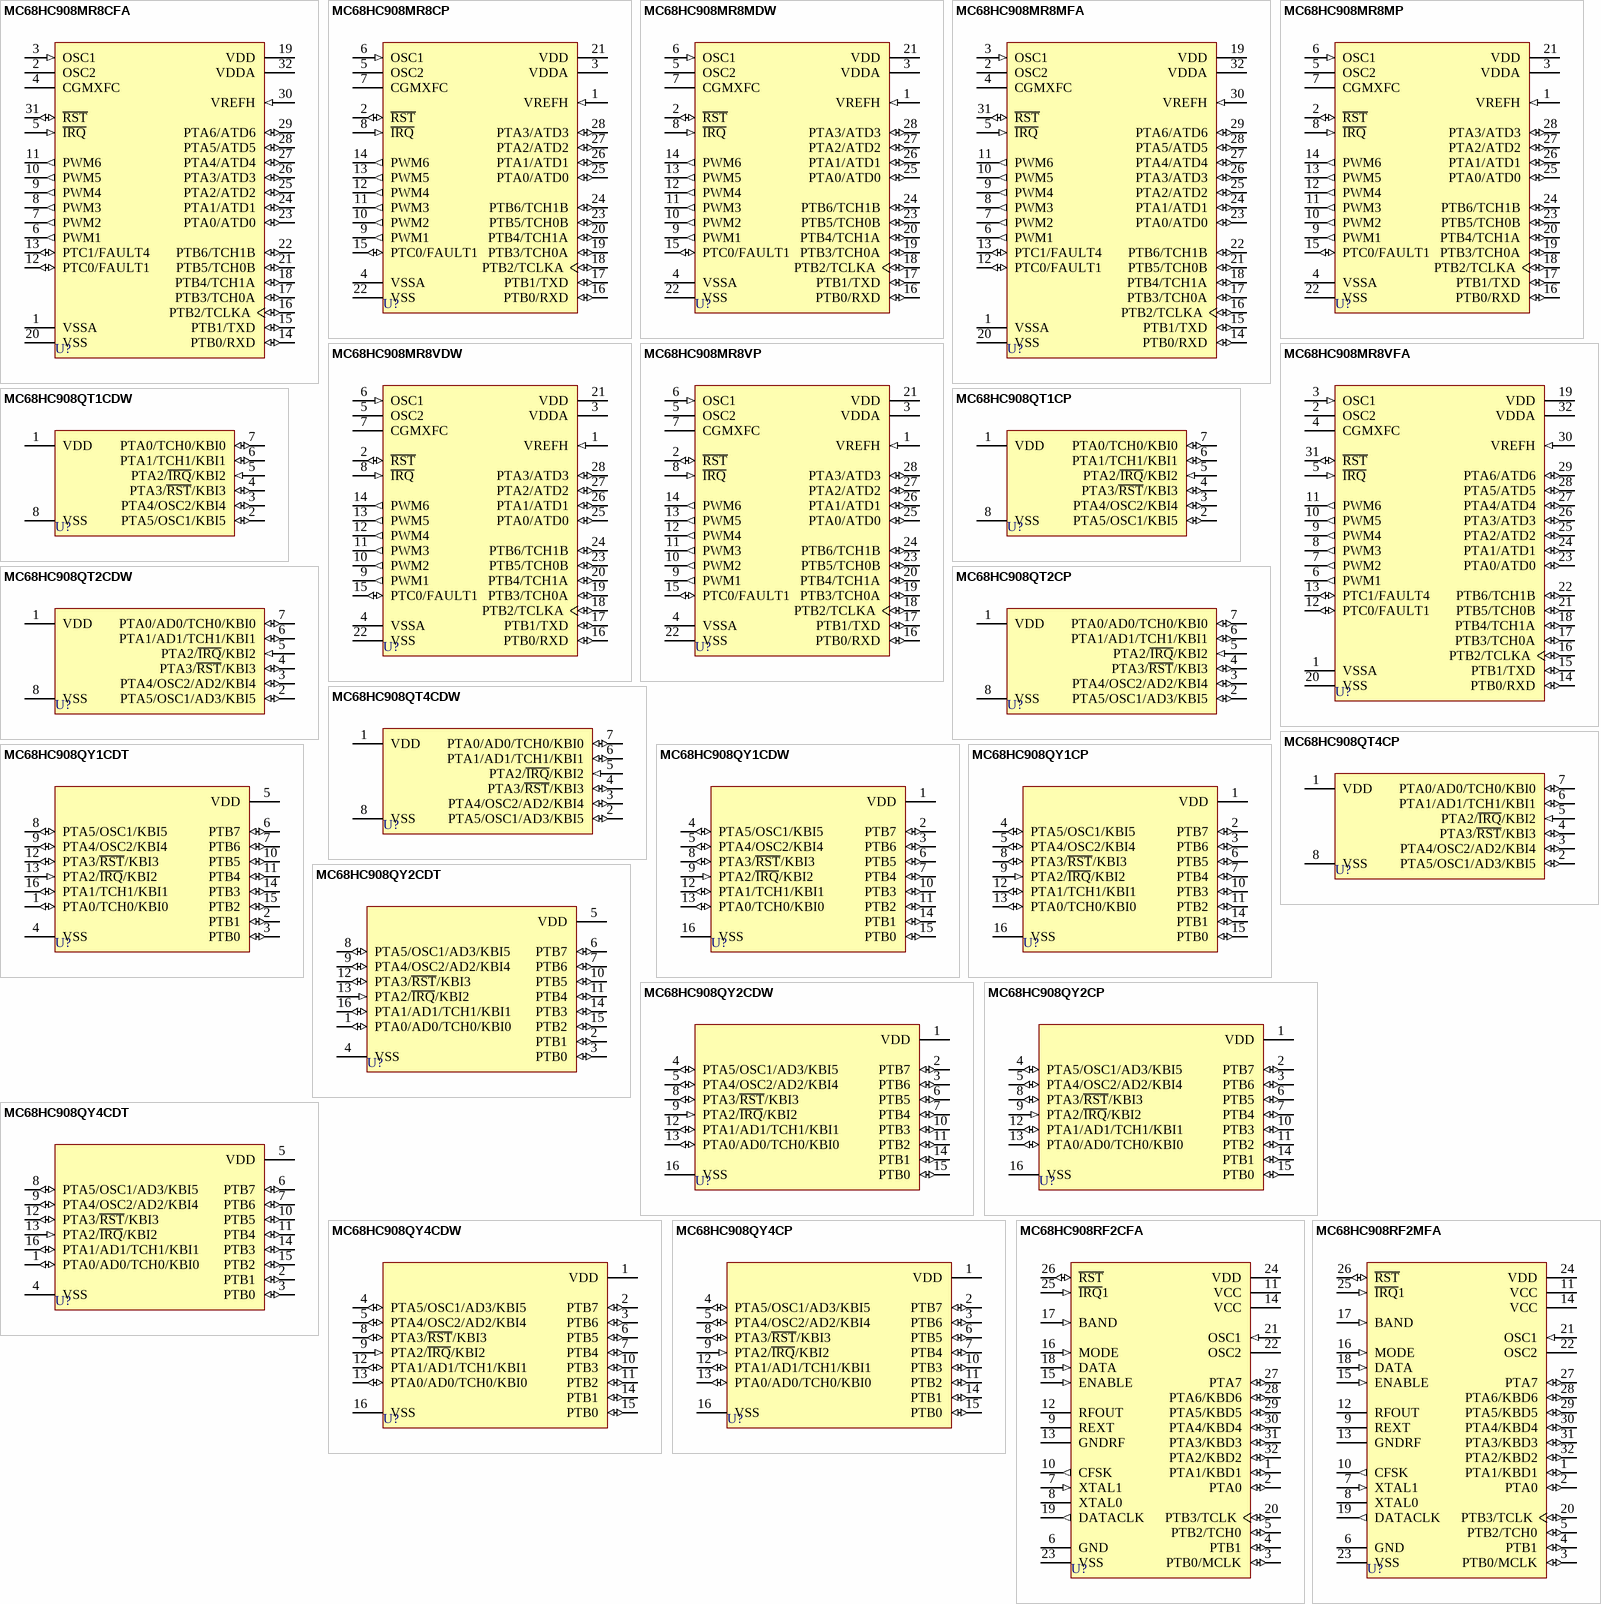
[diagram p97: symbols MC68HC908MR8CFA to MC68HC908RF2MFA]

## MC68HC908MR8CFA
designator U?
8-Bit Microcontroller; Published: 17-Jan-2003; LatestRevisionDate: 13-Apr-2006; LatestRevisionNote: IPC-7351 Footprint Added.; DatasheetVersion: Rev 4, 8/2002; PackageVersion: Aug-2001; PackageReference: 873A-02; Publisher: Altium Limited; PackageDescription: 32-Pin Thin Quad Flat Pack 0.8 mm Pitch; ComponentLink1Description: Manufacturer Link; ComponentLink1URL: http://www.freescale.com/; ComponentLink2Description: Datasheet; ComponentLink2URL: http://www.freescale.com/files/microcontrollers/doc/data_sheet/MC68HC908MR8.pdf
footprint 873A-02_N (Thin QFP, 32-Leads, Body 7x7mm, Pitch 0.8mm, IPC Medium Density)
footprint 873A-02_L (Thin QFP, 32-Leads, Body 7x7mm, Pitch 0.8mm, IPC High Density)
footprint 873A-02_M (Thin QFP, 32-Leads, Body 7x7mm, Pitch 0.8mm, IPC Low Density)
3D model MC68HC908-873A-02 (32-Pin Thin Quad Flat Pack 0.8 mm Pitch)
pins: 1 VSSA (power), 2 OSC2, 3 OSC1 (in), 4 CGMXFC, 5 ~{IRQ} (in), 6 PWM1 (out), 7 PWM2 (out), 8 PWM3 (out), 9 PWM4 (out), 10 PWM5 (out), 11 PWM6 (out), 12 PTC0/FAULT1 (io), 13 PTC1/FAULT4 (io), 14 PTB0/RXD (io), 15 PTB1/TXD (io), 16 PTB2/TCLKA (io), 17 PTB3/TCH0A (io), 18 PTB4/TCH1A (io), 19 VDD (power), 20 VSS (power), 21 PTB5/TCH0B (io), 22 PTB6/TCH1B (io), 23 PTA0/ATD0 (io), 24 PTA1/ATD1 (io), 25 PTA2/ATD2 (io), 26 PTA3/ATD3 (io), 27 PTA4/ATD4 (io), 28 PTA5/ATD5 (io), 29 PTA6/ATD6 (io), 30 VREFH (in), 31 ~{RST} (io), 32 VDDA (power)

## MC68HC908MR8CP
designator U?
8-Bit Microcontroller; Published: 17-Jan-2003; LatestRevisionDate: 06-Jun-2005; LatestRevisionNote: Stylized 3D Model Added.; DatasheetVersion: Rev 4, 8/2002; PackageReference: 710-02; Publisher: Altium Limited; PackageDescription: DIP; 28 Leads; Row Spacing 15.24 mm; Pitch 2.54 mm; ComponentLink1Description: Manufacturer Link; ComponentLink1URL: http://www.freescale.com/; ComponentLink2Description: Datasheet; ComponentLink2URL: http://www.freescale.com/files/microcontrollers/doc/data_sheet/MC68HC908MR8.pdf
footprint 710-02 (DIP; 28 Leads; Row Spacing 15.24 mm; Pitch 2.54 mm)
3D model 710-02 (DIP; 28 Leads; Row Spacing 15.24 mm; Pitch 2.54 mm)
pins: 1 VREFH (in), 2 ~{RST} (io), 3 VDDA (power), 4 VSSA (power), 5 OSC2, 6 OSC1 (in), 7 CGMXFC, 8 ~{IRQ} (in), 9 PWM1 (out), 10 PWM2 (out), 11 PWM3 (out), 12 PWM4 (out), 13 PWM5 (out), 14 PWM6 (out), 15 PTC0/FAULT1 (io), 16 PTB0/RXD (io), 17 PTB1/TXD (io), 18 PTB2/TCLKA (io), 19 PTB3/TCH0A (io), 20 PTB4/TCH1A (io), 21 VDD (power), 22 VSS (power), 23 PTB5/TCH0B (io), 24 PTB6/TCH1B (io), 25 PTA0/ATD0 (io), 26 PTA1/ATD1 (io), 27 PTA2/ATD2 (io), 28 PTA3/ATD3 (io)

## MC68HC908MR8MDW
designator U?
8-Bit Microcontroller; Published: 17-Jan-2003; LatestRevisionDate: 13-Apr-2006; LatestRevisionNote: IPC-7351 Footprint Added.; DatasheetVersion: Rev 4, 8/2002; PackageReference: 751F-03; Publisher: Altium Limited; PackageDescription: 28-Pin Small Outline Integrated Circuit 1.27 mm Pitch; ComponentLink1Description: Manufacturer Link; ComponentLink1URL: http://www.freescale.com/; ComponentLink2Description: Datasheet; ComponentLink2URL: http://www.freescale.com/files/microcontrollers/doc/data_sheet/MC68HC908MR8.pdf
footprint 751F-03_N (SOIC, 28-Leads, Body 17.9x7.5mm, Pitch 1.27mm, IPC Medium Density)
footprint 751F-03_L (SOIC, 28-Leads, Body 17.9x7.5mm, Pitch 1.27mm, IPC High Density)
footprint 751F-03_M (SOIC, 28-Leads, Body 17.9x7.5mm, Pitch 1.27mm, IPC Low Density)
3D model 751F-03 (28-Pin Small Outline Integrated Circuit 1.27 mm Pitch)
pins: 1 VREFH (in), 2 ~{RST} (io), 3 VDDA (power), 4 VSSA (power), 5 OSC2, 6 OSC1 (in), 7 CGMXFC, 8 ~{IRQ} (in), 9 PWM1 (out), 10 PWM2 (out), 11 PWM3 (out), 12 PWM4 (out), 13 PWM5 (out), 14 PWM6 (out), 15 PTC0/FAULT1 (io), 16 PTB0/RXD (io), 17 PTB1/TXD (io), 18 PTB2/TCLKA (io), 19 PTB3/TCH0A (io), 20 PTB4/TCH1A (io), 21 VDD (power), 22 VSS (power), 23 PTB5/TCH0B (io), 24 PTB6/TCH1B (io), 25 PTA0/ATD0 (io), 26 PTA1/ATD1 (io), 27 PTA2/ATD2 (io), 28 PTA3/ATD3 (io)

## MC68HC908MR8MFA
designator U?
8-Bit Microcontroller; Published: 17-Jan-2003; LatestRevisionDate: 13-Apr-2006; LatestRevisionNote: IPC-7351 Footprint Added.; DatasheetVersion: Rev 4, 8/2002; PackageVersion: Aug-2001; PackageReference: 873A-02; Publisher: Altium Limited; PackageDescription: 32-Pin Thin Quad Flat Pack 0.8 mm Pitch; ComponentLink1Description: Manufacturer Link; ComponentLink1URL: http://www.freescale.com/; ComponentLink2Description: Datasheet; ComponentLink2URL: http://www.freescale.com/files/microcontrollers/doc/data_sheet/MC68HC908MR8.pdf
footprint 873A-02_N (Thin QFP, 32-Leads, Body 7x7mm, Pitch 0.8mm, IPC Medium Density)
footprint 873A-02_L (Thin QFP, 32-Leads, Body 7x7mm, Pitch 0.8mm, IPC High Density)
footprint 873A-02_M (Thin QFP, 32-Leads, Body 7x7mm, Pitch 0.8mm, IPC Low Density)
3D model MC68HC908-873A-02 (32-Pin Thin Quad Flat Pack 0.8 mm Pitch)
pins: 1 VSSA (power), 2 OSC2, 3 OSC1 (in), 4 CGMXFC, 5 ~{IRQ} (in), 6 PWM1 (out), 7 PWM2 (out), 8 PWM3 (out), 9 PWM4 (out), 10 PWM5 (out), 11 PWM6 (out), 12 PTC0/FAULT1 (io), 13 PTC1/FAULT4 (io), 14 PTB0/RXD (io), 15 PTB1/TXD (io), 16 PTB2/TCLKA (io), 17 PTB3/TCH0A (io), 18 PTB4/TCH1A (io), 19 VDD (power), 20 VSS (power), 21 PTB5/TCH0B (io), 22 PTB6/TCH1B (io), 23 PTA0/ATD0 (io), 24 PTA1/ATD1 (io), 25 PTA2/ATD2 (io), 26 PTA3/ATD3 (io), 27 PTA4/ATD4 (io), 28 PTA5/ATD5 (io), 29 PTA6/ATD6 (io), 30 VREFH (in), 31 ~{RST} (io), 32 VDDA (power)

## MC68HC908MR8MP
designator U?
8-Bit Microcontroller; Published: 17-Jan-2003; LatestRevisionDate: 06-Jun-2005; LatestRevisionNote: Stylized 3D Model Added.; DatasheetVersion: Rev 4, 8/2002; PackageReference: 710-02; Publisher: Altium Limited; PackageDescription: DIP; 28 Leads; Row Spacing 15.24 mm; Pitch 2.54 mm; ComponentLink1Description: Manufacturer Link; ComponentLink1URL: http://www.freescale.com/; ComponentLink2Description: Datasheet; ComponentLink2URL: http://www.freescale.com/files/microcontrollers/doc/data_sheet/MC68HC908MR8.pdf
footprint 710-02 (DIP; 28 Leads; Row Spacing 15.24 mm; Pitch 2.54 mm)
3D model 710-02 (DIP; 28 Leads; Row Spacing 15.24 mm; Pitch 2.54 mm)
pins: 1 VREFH (in), 2 ~{RST} (io), 3 VDDA (power), 4 VSSA (power), 5 OSC2, 6 OSC1 (in), 7 CGMXFC, 8 ~{IRQ} (in), 9 PWM1 (out), 10 PWM2 (out), 11 PWM3 (out), 12 PWM4 (out), 13 PWM5 (out), 14 PWM6 (out), 15 PTC0/FAULT1 (io), 16 PTB0/RXD (io), 17 PTB1/TXD (io), 18 PTB2/TCLKA (io), 19 PTB3/TCH0A (io), 20 PTB4/TCH1A (io), 21 VDD (power), 22 VSS (power), 23 PTB5/TCH0B (io), 24 PTB6/TCH1B (io), 25 PTA0/ATD0 (io), 26 PTA1/ATD1 (io), 27 PTA2/ATD2 (io), 28 PTA3/ATD3 (io)

## MC68HC908MR8VDW
designator U?
8-Bit Microcontroller; Published: 17-Jan-2003; LatestRevisionDate: 13-Apr-2006; LatestRevisionNote: IPC-7351 Footprint Added.; DatasheetVersion: Rev 4, 8/2002; PackageReference: 751F-03; Publisher: Altium Limited; PackageDescription: 28-Pin Small Outline Integrated Circuit 1.27 mm Pitch; ComponentLink1Description: Manufacturer Link; ComponentLink1URL: http://www.freescale.com/; ComponentLink2Description: Datasheet; ComponentLink2URL: http://www.freescale.com/files/microcontrollers/doc/data_sheet/MC68HC908MR8.pdf
footprint 751F-03_N (SOIC, 28-Leads, Body 17.9x7.5mm, Pitch 1.27mm, IPC Medium Density)
footprint 751F-03_L (SOIC, 28-Leads, Body 17.9x7.5mm, Pitch 1.27mm, IPC High Density)
footprint 751F-03_M (SOIC, 28-Leads, Body 17.9x7.5mm, Pitch 1.27mm, IPC Low Density)
3D model 751F-03 (28-Pin Small Outline Integrated Circuit 1.27 mm Pitch)
pins: 1 VREFH (in), 2 ~{RST} (io), 3 VDDA (power), 4 VSSA (power), 5 OSC2, 6 OSC1 (in), 7 CGMXFC, 8 ~{IRQ} (in), 9 PWM1 (out), 10 PWM2 (out), 11 PWM3 (out), 12 PWM4 (out), 13 PWM5 (out), 14 PWM6 (out), 15 PTC0/FAULT1 (io), 16 PTB0/RXD (io), 17 PTB1/TXD (io), 18 PTB2/TCLKA (io), 19 PTB3/TCH0A (io), 20 PTB4/TCH1A (io), 21 VDD (power), 22 VSS (power), 23 PTB5/TCH0B (io), 24 PTB6/TCH1B (io), 25 PTA0/ATD0 (io), 26 PTA1/ATD1 (io), 27 PTA2/ATD2 (io), 28 PTA3/ATD3 (io)

## MC68HC908MR8VFA
designator U?
8-Bit Microcontroller; Published: 17-Jan-2003; LatestRevisionDate: 13-Apr-2006; LatestRevisionNote: IPC-7351 Footprint Added.; DatasheetVersion: Rev 4, 8/2002; PackageVersion: Aug-2001; PackageReference: 873A-02; Publisher: Altium Limited; PackageDescription: 32-Pin Thin Quad Flat Pack 0.8 mm Pitch; ComponentLink1Description: Manufacturer Link; ComponentLink1URL: http://www.freescale.com/; ComponentLink2Description: Datasheet; ComponentLink2URL: http://www.freescale.com/files/microcontrollers/doc/data_sheet/MC68HC908MR8.pdf
footprint 873A-02_N (Thin QFP, 32-Leads, Body 7x7mm, Pitch 0.8mm, IPC Medium Density)
footprint 873A-02_L (Thin QFP, 32-Leads, Body 7x7mm, Pitch 0.8mm, IPC High Density)
footprint 873A-02_M (Thin QFP, 32-Leads, Body 7x7mm, Pitch 0.8mm, IPC Low Density)
3D model MC68HC908-873A-02 (32-Pin Thin Quad Flat Pack 0.8 mm Pitch)
pins: 1 VSSA (power), 2 OSC2, 3 OSC1 (in), 4 CGMXFC, 5 ~{IRQ} (in), 6 PWM1 (out), 7 PWM2 (out), 8 PWM3 (out), 9 PWM4 (out), 10 PWM5 (out), 11 PWM6 (out), 12 PTC0/FAULT1 (io), 13 PTC1/FAULT4 (io), 14 PTB0/RXD (io), 15 PTB1/TXD (io), 16 PTB2/TCLKA (io), 17 PTB3/TCH0A (io), 18 PTB4/TCH1A (io), 19 VDD (power), 20 VSS (power), 21 PTB5/TCH0B (io), 22 PTB6/TCH1B (io), 23 PTA0/ATD0 (io), 24 PTA1/ATD1 (io), 25 PTA2/ATD2 (io), 26 PTA3/ATD3 (io), 27 PTA4/ATD4 (io), 28 PTA5/ATD5 (io), 29 PTA6/ATD6 (io), 30 VREFH (in), 31 ~{RST} (io), 32 VDDA (power)

## MC68HC908MR8VP
designator U?
8-Bit Microcontroller; Published: 17-Jan-2003; LatestRevisionDate: 06-Jun-2005; LatestRevisionNote: Stylized 3D Model Added.; DatasheetVersion: Rev 4, 8/2002; PackageReference: 710-02; Publisher: Altium Limited; PackageDescription: DIP; 28 Leads; Row Spacing 15.24 mm; Pitch 2.54 mm; ComponentLink1Description: Manufacturer Link; ComponentLink1URL: http://www.freescale.com/; ComponentLink2Description: Datasheet; ComponentLink2URL: http://www.freescale.com/files/microcontrollers/doc/data_sheet/MC68HC908MR8.pdf
footprint 710-02 (DIP; 28 Leads; Row Spacing 15.24 mm; Pitch 2.54 mm)
3D model 710-02 (DIP; 28 Leads; Row Spacing 15.24 mm; Pitch 2.54 mm)
pins: 1 VREFH (in), 2 ~{RST} (io), 3 VDDA (power), 4 VSSA (power), 5 OSC2, 6 OSC1 (in), 7 CGMXFC, 8 ~{IRQ} (in), 9 PWM1 (out), 10 PWM2 (out), 11 PWM3 (out), 12 PWM4 (out), 13 PWM5 (out), 14 PWM6 (out), 15 PTC0/FAULT1 (io), 16 PTB0/RXD (io), 17 PTB1/TXD (io), 18 PTB2/TCLKA (io), 19 PTB3/TCH0A (io), 20 PTB4/TCH1A (io), 21 VDD (power), 22 VSS (power), 23 PTB5/TCH0B (io), 24 PTB6/TCH1B (io), 25 PTA0/ATD0 (io), 26 PTA1/ATD1 (io), 27 PTA2/ATD2 (io), 28 PTA3/ATD3 (io)

## MC68HC908QT1CDW
designator U?
8-Bit Microcontroller; Published: 17-Jan-2003; LatestRevisionDate: 13-Apr-2006; LatestRevisionNote: IPC-7351 Footprint Added.; DatasheetVersion: 20-Sep-2002; PackageVersion: Sep-2002; PackageReference: 968; Publisher: Altium Limited; PackageDescription: 8-Pin Small Outline Package 1.27 mm Pitch; ComponentLink1Description: Manufacturer Link; ComponentLink1URL: http://www.freescale.com/; ComponentLink2Description: Datasheet; ComponentLink2URL: http://www.freescale.com/files/microcontrollers/doc/data_sheet/MC68HC908QY4.pdf
footprint 968_N (SOP, 8-Leads, Body 5.3x5.3mm, Pitch 1.27mm, IPC Medium Density)
footprint 968_L (SOP, 8-Leads, Body 5.3x5.3mm, Pitch 1.27mm, IPC High Density)
footprint 968_M (SOP, 8-Leads, Body 5.3x5.3mm, Pitch 1.27mm, IPC Low Density)
3D model 968 (8-Pin Small Outline Package 1.27 mm Pitch)
pins: 1 VDD (power), 2 PTA5/OSC1/KBI5 (io), 3 PTA4/OSC2/KBI4 (io), 4 PTA3/~{RST}/KBI3 (io), 5 PTA2/~{IRQ}/KBI2 (in), 6 PTA1/TCH1/KBI1 (io), 7 PTA0/TCH0/KBI0 (io), 8 VSS (power)

## MC68HC908QT1CP
designator U?
8-Bit Microcontroller; Published: 17-Jan-2003; LatestRevisionDate: 06-Jun-2005; LatestRevisionNote: Stylized 3D Model Added.; DatasheetVersion: 20-Sep-2002; PackageReference: 626-05; Publisher: Altium Limited; PackageDescription: DIP; 8 Leads; Row Spacing 7.62 mm; Pitch 2.54 mm; ComponentLink1Description: Manufacturer Link; ComponentLink1URL: http://www.freescale.com/; ComponentLink2Description: Datasheet; ComponentLink2URL: http://www.freescale.com/files/microcontrollers/doc/data_sheet/MC68HC908QY4.pdf
footprint 626-05 (DIP; 8 Leads; Row Spacing 7.62 mm; Pitch 2.54 mm)
3D model 626-05 (DIP; 8 Leads; Row Spacing 7.62 mm; Pitch 2.54 mm)
pins: 1 VDD (power), 2 PTA5/OSC1/KBI5 (io), 3 PTA4/OSC2/KBI4 (io), 4 PTA3/~{RST}/KBI3 (io), 5 PTA2/~{IRQ}/KBI2 (in), 6 PTA1/TCH1/KBI1 (io), 7 PTA0/TCH0/KBI0 (io), 8 VSS (power)

## MC68HC908QT2CDW
designator U?
8-Bit Microcontroller; Published: 17-Jan-2003; LatestRevisionDate: 13-Apr-2006; LatestRevisionNote: IPC-7351 Footprint Added.; DatasheetVersion: 20-Sep-2002; PackageVersion: Sep-2002; PackageReference: 968; Publisher: Altium Limited; PackageDescription: 8-Pin Small Outline Package 1.27 mm Pitch; ComponentLink1Description: Manufacturer Link; ComponentLink1URL: http://www.freescale.com/; ComponentLink2Description: Datasheet; ComponentLink2URL: http://www.freescale.com/files/microcontrollers/doc/data_sheet/MC68HC908QY4.pdf
footprint 968_N (SOP, 8-Leads, Body 5.3x5.3mm, Pitch 1.27mm, IPC Medium Density)
footprint 968_L (SOP, 8-Leads, Body 5.3x5.3mm, Pitch 1.27mm, IPC High Density)
footprint 968_M (SOP, 8-Leads, Body 5.3x5.3mm, Pitch 1.27mm, IPC Low Density)
3D model 968 (8-Pin Small Outline Package 1.27 mm Pitch)
pins: 1 VDD (power), 2 PTA5/OSC1/AD3/KBI5 (io), 3 PTA4/OSC2/AD2/KBI4 (io), 4 PTA3/~{RST}/KBI3 (io), 5 PTA2/~{IRQ}/KBI2 (in), 6 PTA1/AD1/TCH1/KBI1 (io), 7 PTA0/AD0/TCH0/KBI0 (io), 8 VSS (power)

## MC68HC908QT2CP
designator U?
8-Bit Microcontroller; Published: 17-Jan-2003; LatestRevisionDate: 06-Jun-2005; LatestRevisionNote: Stylized 3D Model Added.; DatasheetVersion: 20-Sep-2002; PackageReference: 626-05; Publisher: Altium Limited; PackageDescription: DIP; 8 Leads; Row Spacing 7.62 mm; Pitch 2.54 mm; ComponentLink1Description: Manufacturer Link; ComponentLink1URL: http://www.freescale.com/; ComponentLink2Description: Datasheet; ComponentLink2URL: http://www.freescale.com/files/microcontrollers/doc/data_sheet/MC68HC908QY4.pdf
footprint 626-05 (DIP; 8 Leads; Row Spacing 7.62 mm; Pitch 2.54 mm)
3D model 626-05 (DIP; 8 Leads; Row Spacing 7.62 mm; Pitch 2.54 mm)
pins: 1 VDD (power), 2 PTA5/OSC1/AD3/KBI5 (io), 3 PTA4/OSC2/AD2/KBI4 (io), 4 PTA3/~{RST}/KBI3 (io), 5 PTA2/~{IRQ}/KBI2 (in), 6 PTA1/AD1/TCH1/KBI1 (io), 7 PTA0/AD0/TCH0/KBI0 (io), 8 VSS (power)

## MC68HC908QT4CDW
designator U?
8-Bit Microcontroller; Published: 17-Jan-2003; LatestRevisionDate: 13-Apr-2006; LatestRevisionNote: IPC-7351 Footprint Added.; DatasheetVersion: 20-Sep-2002; PackageVersion: Sep-2002; PackageReference: 968; Publisher: Altium Limited; PackageDescription: 8-Pin Small Outline Package 1.27 mm Pitch; ComponentLink1Description: Manufacturer Link; ComponentLink1URL: http://www.freescale.com/; ComponentLink2Description: Datasheet; ComponentLink2URL: http://www.freescale.com/files/microcontrollers/doc/data_sheet/MC68HC908QY4.pdf
footprint 968_N (SOP, 8-Leads, Body 5.3x5.3mm, Pitch 1.27mm, IPC Medium Density)
footprint 968_L (SOP, 8-Leads, Body 5.3x5.3mm, Pitch 1.27mm, IPC High Density)
footprint 968_M (SOP, 8-Leads, Body 5.3x5.3mm, Pitch 1.27mm, IPC Low Density)
3D model 968 (8-Pin Small Outline Package 1.27 mm Pitch)
pins: 1 VDD (power), 2 PTA5/OSC1/AD3/KBI5 (io), 3 PTA4/OSC2/AD2/KBI4 (io), 4 PTA3/~{RST}/KBI3 (io), 5 PTA2/~{IRQ}/KBI2 (in), 6 PTA1/AD1/TCH1/KBI1 (io), 7 PTA0/AD0/TCH0/KBI0 (io), 8 VSS (power)

## MC68HC908QT4CP
designator U?
8-Bit Microcontroller; Published: 17-Jan-2003; LatestRevisionDate: 06-Jun-2005; LatestRevisionNote: Stylized 3D Model Added.; DatasheetVersion: 20-Sep-2002; PackageReference: 626-05; Publisher: Altium Limited; PackageDescription: DIP; 8 Leads; Row Spacing 7.62 mm; Pitch 2.54 mm; ComponentLink1Description: Manufacturer Link; ComponentLink1URL: http://www.freescale.com/; ComponentLink2Description: Datasheet; ComponentLink2URL: http://www.freescale.com/files/microcontrollers/doc/data_sheet/MC68HC908QY4.pdf
footprint 626-05 (DIP; 8 Leads; Row Spacing 7.62 mm; Pitch 2.54 mm)
3D model 626-05 (DIP; 8 Leads; Row Spacing 7.62 mm; Pitch 2.54 mm)
pins: 1 VDD (power), 2 PTA5/OSC1/AD3/KBI5 (io), 3 PTA4/OSC2/AD2/KBI4 (io), 4 PTA3/~{RST}/KBI3 (io), 5 PTA2/~{IRQ}/KBI2 (in), 6 PTA1/AD1/TCH1/KBI1 (io), 7 PTA0/AD0/TCH0/KBI0 (io), 8 VSS (power)

## MC68HC908QY1CDT
designator U?
8-Bit Microcontroller; Published: 17-Jan-2003; LatestRevisionDate: 06-Jun-2005; LatestRevisionNote: Stylized 3D Model Added.; DatasheetVersion: 20-Sep-2002; PackageVersion: Mar-2000; PackageReference: 948F-01; Publisher: Altium Limited; PackageDescription: Shrink Small Outline; 16 Leads; Body Width 4.4 mm; Pitch 0.65 mm; ComponentLink1Description: Manufacturer Link; ComponentLink1URL: http://www.freescale.com/; ComponentLink2Description: Datasheet; ComponentLink2URL: http://www.freescale.com/files/microcontrollers/doc/data_sheet/MC68HC908QY4.pdf
footprint 948F-01 (Shrink Small Outline; 16 Leads; Body Width 4.4 mm; Pitch 0.65 mm)
3D model 948F-01 (Shrink Small Outline; 16 Leads; Body Width 4.4 mm; Pitch 0.65 mm)
pins: 1 PTA0/TCH0/KBI0 (io), 2 PTB1 (io), 3 PTB0 (io), 4 VSS (power), 5 VDD (power), 6 PTB7 (io), 7 PTB6 (io), 8 PTA5/OSC1/KBI5 (io), 9 PTA4/OSC2/KBI4 (io), 10 PTB5 (io), 11 PTB4 (io), 12 PTA3/~{RST}/KBI3 (io), 13 PTA2/~{IRQ}/KBI2 (in), 14 PTB3 (io), 15 PTB2 (io), 16 PTA1/TCH1/KBI1 (io)

## MC68HC908QY1CDW
designator U?
8-Bit Microcontroller; Published: 17-Jan-2003; LatestRevisionDate: 13-Apr-2006; LatestRevisionNote: IPC-7351 Footprint Added.; DatasheetVersion: 20-Sep-2002; PackageVersion: Sep-2002; PackageReference: 751G; Publisher: Altium Limited; PackageDescription: 16-Pin Small Outline Integrated Circuit 1.27 mm Pitch; ComponentLink1Description: Manufacturer Link; ComponentLink1URL: http://www.freescale.com/; ComponentLink2Description: Datasheet; ComponentLink2URL: http://www.freescale.com/files/microcontrollers/doc/data_sheet/MC68HC908QY4.pdf
footprint 751G_N (SOIC, 16-Leads, Body 10.3x7.5mm, Pitch 1.27mm, IPC Medium Density)
footprint 751G_L (SOIC, 16-Leads, Body 10.3x7.5mm, Pitch 1.27mm, IPC High Density)
footprint 751G_M (SOIC, 16-Leads, Body 10.3x7.5mm, Pitch 1.27mm, IPC Low Density)
3D model 751G (16-Pin Small Outline Integrated Circuit 1.27 mm Pitch)
pins: 1 VDD (power), 2 PTB7 (io), 3 PTB6 (io), 4 PTA5/OSC1/KBI5 (io), 5 PTA4/OSC2/KBI4 (io), 6 PTB5 (io), 7 PTB4 (io), 8 PTA3/~{RST}/KBI3 (io), 9 PTA2/~{IRQ}/KBI2 (in), 10 PTB3 (io), 11 PTB2 (io), 12 PTA1/TCH1/KBI1 (io), 13 PTA0/TCH0/KBI0 (io), 14 PTB1 (io), 15 PTB0 (io), 16 VSS (power)